# EAGLE library part SO-8 (library IC-Packages)
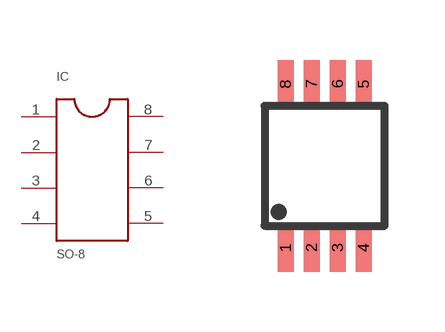
[diagram p0: symbol with the pads of SO8; footprint SO8]

Designator prefix IC

## SO-8  [SO8]
1  1
2  2
3  3
4  4
5  5
6  6
7  7
8  8

## Footprint SO8 (pad centres in mm)
MSOP8
smd 0.4 x 1.2: 1 -0.975,-2.05; 2 -0.325,-2.05; 3 0.325,-2.05; 4 0.975,-2.05; 5 0.975,2.05; 6 0.325,2.05; 7 -0.325,2.05; 8 -0.975,2.05